# Altium integrated library SAE800G.IntLib: 1 symbol
Pins are listed as number, name and electrical type; pins without a type are passive.

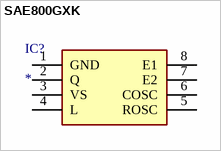
[diagram p0: symbol SAE800GXK]

## SAE800GXK
designator IC?
Integrated Circuit; Manufacturer_Name: Infineon; Manufacturer_Part_Number: SAE800GXK; Datasheet Link: https://media.digikey.com/pdf/Data%20Sheets/Infineon%20PDFs/SAE_800.pdf; Height: 1.75mm; Mouser Part Number: 726-SAE800GXK; Mouser Price/Stock: https://www.mouser.com/Search/Refine.aspx?Keyword=726-SAE800GXK
footprint SAE800G
pins: 1 GND (power), 2 Q, 3 VS, 4 L, 5 ROSC, 6 COSC, 7 E2, 8 E1